# EAGLE library part FH12-12S-0.5SVA (library Connector)
12 Position FFC, FPC Connector Contacts, Vertical - 1 Sided 0.020" (0.50mm) Surface Mount Datasheet <https://www.hirose.com/en/product/document?clcode=CL0586-0757-7-54&productname=FH12-12S-0.5SVA(54)&series=FH12&documenttype=2DDrawing&lang=en&documentid=0000990862>
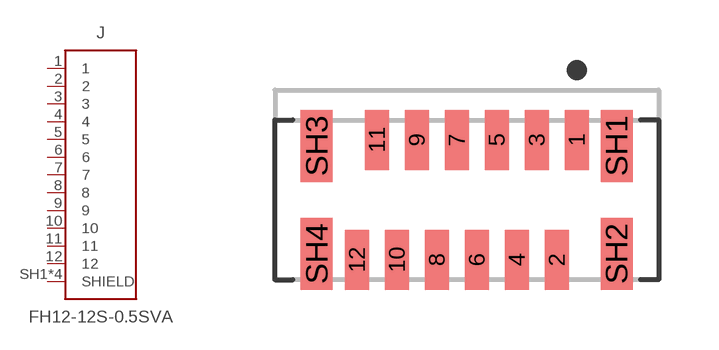
[diagram p24: symbol with the pads of FH12-12S-0.5SVA(54); footprint FH12-12S-0.5SVA(54)]

Designator prefix J

## FH12-12S-0.5SVA (CATEGORY: Connector; CONTACTS: 12; CURRENT_RATING: 0.5A; DESCRIPTION: 12 Position FFC, FPC Connector Contacts, Vertical - 1 Sided 0.020" (0.50mm) Surface Mount; MANUFACTURER: Hirose Electric Co Ltd; MPN: FH12-12S-0.5SVA(54); MPOUNT_TYPE: Surface Mount; OPERATING_TEMP: -40°C to 85°C; PART_STATUS: Active; ROHS_COMPLIANT: RoHS2 Compliant; SERIES: FH12; SUB-CATEGORY: FFC,FPC; TYPE: Contacts, Vertical - 1 Sided; VOLTAGE_RATING: 50V AC/DC)  [FH12-12S-0.5SVA(54)]
1  1  pas
2  2  pas
3  3  pas
4  4  pas
5  5  pas
6  6  pas
7  7  pas
8  8  pas
9  9  pas
10  10  pas
11  11  pas
12  12  pas
SH1  SHIELD  nc
SH2  SHIELD  nc
SH3  SHIELD  nc
SH4  SHIELD  nc

## Footprint FH12-12S-0.5SVA(54) (pad centres in mm)
smd 0.6 x 1.5: 1 2.75,1.5; 2 2.25,-1.5; 3 1.75,1.5; 4 1.25,-1.5; 5 0.75,1.5; 6 0.25,-1.5; 7 -0.25,1.5; 8 -0.75,-1.5; 9 -1.25,1.5; 10 -1.75,-1.5; 11 -2.25,1.5; 12 -2.75,-1.5
smd 0.8 x 1.8: SH1 3.75,1.35; SH2 3.75,-1.35; SH3 -3.75,1.35; SH4 -3.75,-1.35